# EAGLE library part TC7W04FU (library ICs)
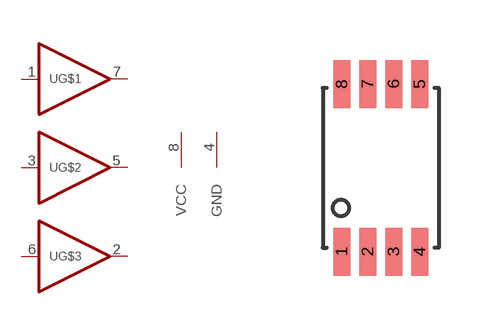
[diagram p25: symbol with the pads of SSOP8-P-0.65; footprint SSOP8-P-0.65]

Designator prefix -; gates G$1=BUFFER G$2=BUFFER G$3=BUFFER G$4=LOGIC_PWR

## TC7W04FU  [SSOP8-P-0.65]
1  G$1:A  in
2  G$3:Y  out
3  G$2:A  in
4  G$4:GND
5  G$2:Y  out
6  G$3:A  in
7  G$1:Y  out
8  G$4:VCC

## Footprint SSOP8-P-0.65 (pad centres in mm)
smd 0.425 x 1.2: 1 -0.975,-2.1; 2 -0.325,-2.1; 3 0.325,-2.1; 4 0.975,-2.1; 5 0.975,2.1; 6 0.325,2.1; 7 -0.325,2.1; 8 -0.975,2.1